# EAGLE library part SF2321D (library SF2321D)
Signal Conditioning FILTER, SAW, 1090 MHZ, 6SMD Source: Datasheet <https://www.rfmi.co/pdf/Datasheet/sf2321d.pdf>
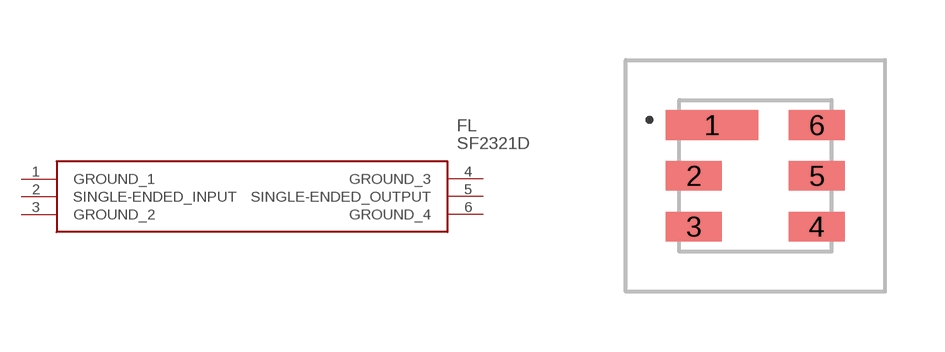
[diagram p0: symbol with the pads of SF2321D; footprint SF2321D]

Designator prefix FL

## SF2321D (Description: Signal Conditioning FILTER, SAW, 1090 MHZ, 6SMD; Height: 1.7mm; Manufacturer_Name: RFMi; Manufacturer_Part_Number: SF2321D)  [SF2321D]
1  GROUND_1
2  SINGLE-ENDED_INPUT
3  GROUND_2
4  GROUND_3
5  SINGLE-ENDED_OUTPUT
6  GROUND_4

## Footprint SF2321D (pad centres in mm)
SF2321D-3
smd 2.31 x 0.74: 1 -1.08,1.27
smd 1.4 x 0.74: 2 -1.535,0; 3 -1.535,-1.27; 4 1.535,-1.27; 5 1.535,0; 6 1.535,1.27